# Altium schematic symbol library Cap0402.SchLib: 1 symbol
Pins are listed as number, name and electrical type; pins without a type are passive.

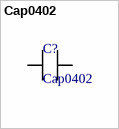
[diagram p0: symbol Cap0402]

## Cap0402
designator C?
Manufacturer: Murata Electronics; Manufacturer Part Number: GRM155R71C104KA88J; Supplier: DigiKey; Supplier Part Number: 490-6328-2-ND
footprint CAPC1005X06N (Chip Capacitor, 2-Leads, Body 1.02x0.51mm, IPC Medium Density)
pins: 1, 2